# Altium schematic symbol library BAS81-GS08.Schlib: 1 symbol
Pins are listed as number, name and electrical type; pins without a type are passive.

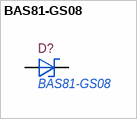
[diagram p0: symbol BAS81-GS08]

## BAS81-GS08
designator D?
Diode Small Signal Schottky 40V 0.03A 2-Pin Mini-MELF SOD-80 T/R; Manufacturer 1: Vishay Semiconductors; Max Surge Current: 500mA; Forward Voltage: 1V; Forward Current: 30mA; Peak Reverse Current: 200nA; Element Configuration: Single; Current Rating: 30A; Supplier 1: Digi-Key; Manufacturer Part Number 1: BAS81-GS08; Stock 1: 12175; Pricing 1: 1=0.37000, 10=0.29900, 100=0.15850, 500=0.10428, 1000=0.07092 (USD); RoHS: Yes; Mount: Surface Mount; Number of Pins: 2; Contact Plating: Tin,Silver; Min Operating Temperature: -65°C; Max Operating Temperature: 125°C; Packaging: Tape and Reel; Package Quantity: 2500; Average Rectified Current: 30mA; Max Reverse Leakage Current: 200nA; Peak Non-Repetitive Surge Current: 500mA; Max Repetitive Reverse Voltage (Vrrm): 40V; Max Reverse Voltage (DC): 40V; Max Forward Surge Current (Ifsm): 500mA; Diameter: 1.6mm; Length: 3.7mm; Height: 1.6mm; Width: 1.6mm; Radiation Hardening: No; REACH SVHC: Unknown; ComponentLink1URL: https://datasheet.ciiva.com/1240/1698309-1240528.pdf?src-supplier=Newark; ComponentLink1Description: https://datasheet.ciiva.com/1240/1698309-1240528.pdf?src-supplier=Newark; ComponentLink2URL: https://datasheet.ciiva.com/15144/getdatasheetpartid-45935-15144179.pdf?src-supplier=Verical; ComponentLink2Description: https://datasheet.ciiva.com/15144/getdatasheetpartid-45935-15144179.pdf?src-supplier=Verical; ComponentLink3URL: https://datasheet.ciiva.com/4245/bas81-4245446.pdf?src-supplier=Arrow; ComponentLink3Description: https://datasheet.ciiva.com/4245/bas81-4245446.pdf?src-supplier=Arrow; ComponentLink4URL: https://datasheet.ciiva.com/17076/bas81-gs08-17076266.pdf?src-supplier=Allied+Electronics; ComponentLink4Description: https://datasheet.ciiva.com/17076/bas81-gs08-17076266.pdf?src-supplier=Allied+Electronics; ComponentLink5URL: https://datasheet.ciiva.com/26294/1698309-26294950.pdf?src-supplier=Element14; ComponentLink5Description: https://datasheet.ciiva.com/26294/1698309-26294950.pdf?src-supplier=Element14; ComponentLink6URL: https://datasheet.ciiva.com/16941/70061832-16941562.pdf?src-supplier=Allied+Electronics; ComponentLink6Description: https://datasheet.ciiva.com/16941/70061832-16941562.pdf?src-supplier=Allied+Electronics; Supplier Part Number 1: BAS81-GS08GICT-ND
footprint SOD-80 (MELF Diode, 2-Leads, Body 5.00x2.50mm, IPC Medium Density)
pins: 1 A, 2 K